# EAGLE library part TPS63001DRCR (library TPS63031)
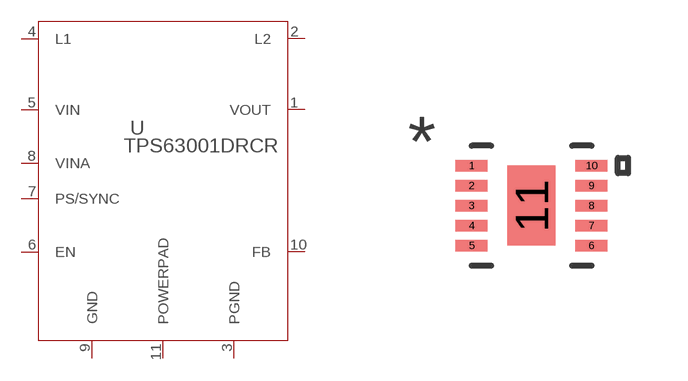
[diagram p0: symbol with the pads of NEWPVSON-N10; footprint NEWPVSON-N10]

Designator prefix -

## TPS63001DRCR  [NEWPVSON-N10]
1  VOUT  pas
2  L2  pas
3  PGND  pas
4  L1  pas
5  VIN  pas
6  EN  pas
7  PS/SYNC  pas
8  VINA  pas
9  GND  pas
10  FB  pas
11  POWERPAD  pas

## Footprint NEWPVSON-N10 (pad centres in mm)
smd 0.8 x 0.28: 1 -1.5,1; 2 -1.5,0.5; 3 -1.5,0; 4 -1.5,-0.5; 5 -1.5,-1; 6 1.5,-1; 7 1.5,-0.5; 8 1.5,0; 9 1.5,0.5; 10 1.5,1
smd 1.2 x 2: 11 0,0